# Altium footprint library IC_Nexperia_TL431AQDBZR,215_eec_0.PcbLib: 1 footprints
Each footprint in its own frame and in the unit in brackets; x right, y up, seen from the top. Pads: shape width x height; smd on the part's side, far side on the other; paste and mask are expansions set on the pad; w line width, h text height; cw(c..) or ccw(c..) is an arc to the next point about the centre after c.
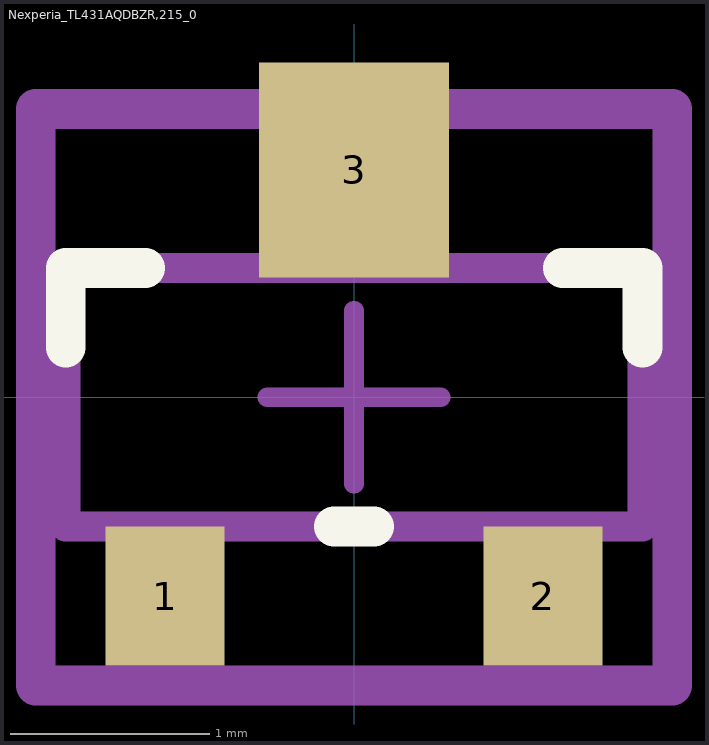
[diagram p0: the footprint, top view; thin cyan lines are the x and y axes]

## Nexperia_TL431AQDBZR,215_0 [mm]
pads (3):
  rect 0.6x0.7 smd paste-1000 mask+0: 1(-0.95,-1) 2(0.95,-1)
  rect 0.956x1.081 smd paste-1000 mask+0: 3(0,1.143)
Top Overlay:
  lines w0.2: -1.45,0.249 -1.45,0.649 ; -1.449,0.65 -1.05,0.65 ; -0.1,-0.65 0.1,-0.65 ; 1.05,0.65 1.45,0.65 ; 1.451,0.249 1.451,0.649
Top Paste:
  rectangle: -1.2,-1.3 -0.7,-0.7
  rectangle: 0.7,-1.3 1.2,-0.7
  rectangle: -0.25,0.7 0.25,1.3
Mechanical 10:
  lines w0.2: -1.6,-1.45 1.6,-1.45 1.6,1.45 -1.6,1.45 -1.6,-1.45
  text ".Designator" at 0,0 h1
Mechanical 12:
  lines w0.15: -1.45,-0.65 1.45,-0.65 1.45,0.65 -1.45,0.65 -1.45,-0.65
Mechanical 15:
  lines w0.1: -0.435,0 0.435,0 ; 0,-0.435 0,0.435
  lines w0.2: -1.6,-1.45 1.6,-1.45 1.6,1.45 -1.6,1.45 -1.6,-1.45
3D body "3dmodel.step": height 1.04, standoff 0, extent -1.45,-1.2 1.45,1.2